# Altium schematic symbol library GCM155C71A105KE38D.SchLib: 1 symbol
Pins are listed as number, name and electrical type; pins without a type are passive.

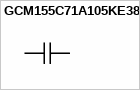
[diagram p0: symbol GCM155C71A105KE38D]

## GCM155C71A105KE38D
designator ?
CAP CER 1UF 10V X7S 0402
pins: 1, 2 1